# Altium schematic symbol library kmilo17pet-NSC_Switcher.SchLib: 2226 symbols (part 18 of 59)
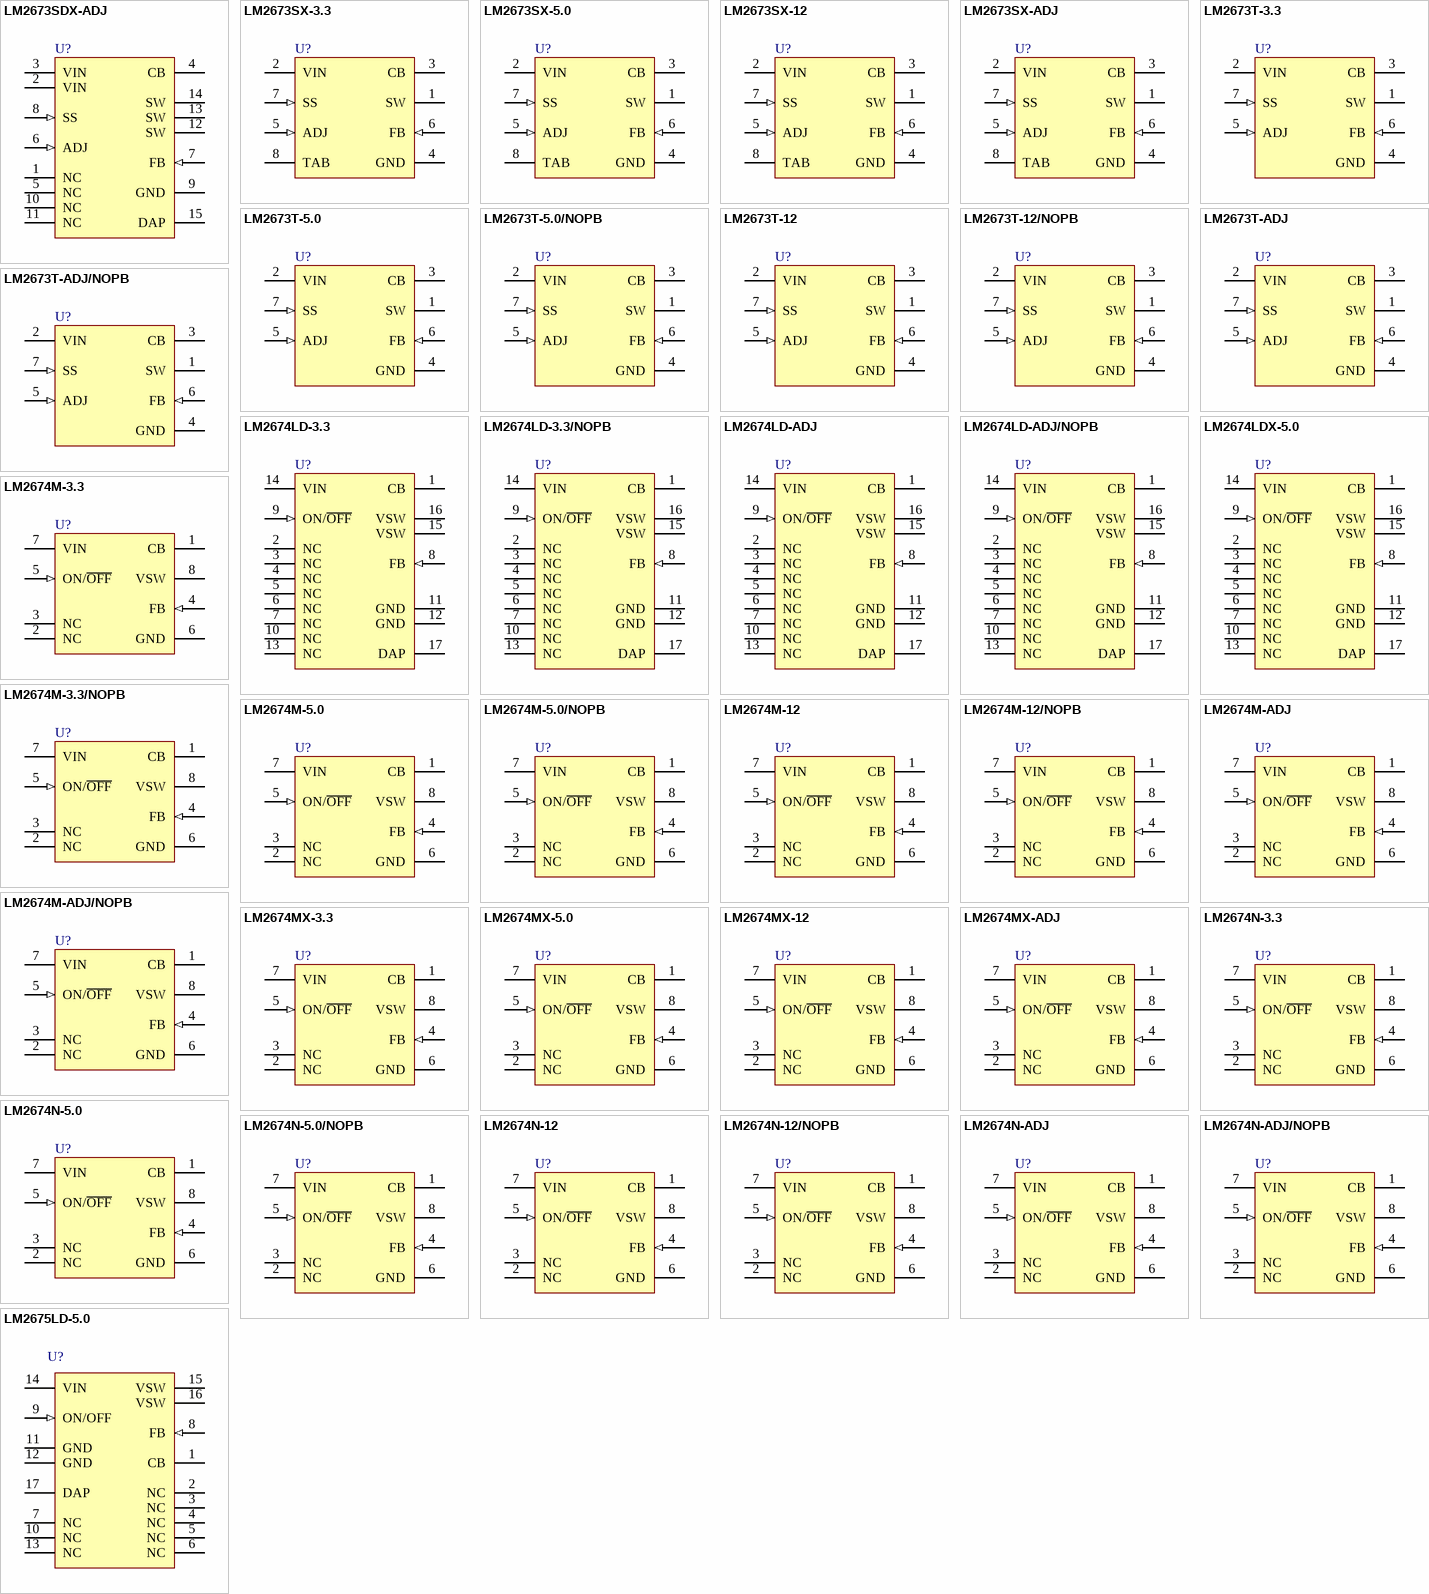
[diagram p86: symbols LM2673SDX-ADJ to LM2675LD-5.0]

## LM2674M-3.3
designator U?
SIMPLE SWITCHER® Power Converter High Efficiency 500mA Step-Down Voltage Regulator, 8-pin Narrow SOIC; PartNumber: LM2674M-3.3; Manufacturer: National Semiconductor; PackageTopMarking: NSZXTT*2674*M3.3; PowerWise: N; High-Reliability: Y; DatasheetVersion: Mar-2005; PackageVersion: revM, May-2009; PackageReference: M08A; PackageDescription: SOIC Narrow, 4.9 x 3.9 x 1.45mm, 8 Lead, 1.27mm Pitch; RoHS: N; PinCount: 8; CompType: Switcher; Code_JEDEC: MS-012-AA; Code_IPC: SOIC127P600-8; ComponentLink1Description: Manufacturer URL; ComponentLink1URL: http://www.national.com/; ComponentLink2Description: LM2674 Datasheet; ComponentLink2URL: http://www.national.com/ds/LM/LM2674.pdf; ComponentLink3Description: LM2674 Web Page; ComponentLink3URL: http://www.national.com/pf/LM/LM2674.html; ComponentLink4Description: M08A Package Page; ComponentLink4URL: http://www.national.com/packaging/folders/m08a.html
footprint M08A_N (SOIC, 8-Leads, Body 4.9x3.9mm, Pitch 1.27mm, IPC Medium Density)
footprint M08A_L (SOIC, 8-Leads, Body 4.9x3.9mm, Pitch 1.27mm, IPC High Density)
footprint M08A_M (SOIC, 8-Leads, Body 4.9x3.9mm, Pitch 1.27mm, IPC Low Density)
pins: 1 CB, 2 NC, 3 NC, 4 FB (in), 5 ON/~{OFF} (in), 6 GND (power), 7 VIN (power), 8 VSW (power)

## LM2674M-3.3/NOPB
designator U?
SIMPLE SWITCHER® Power Converter High Efficiency 500mA Step-Down Voltage Regulator, 8-pin Narrow SOIC, Pb-Free; PartNumber: LM2674M-3.3/NOPB; Manufacturer: National Semiconductor; PackageTopMarking: NSZXTT*2674*M3.3; PowerWise: N; High-Reliability: Y; DatasheetVersion: Mar-2005; PackageVersion: revM, May-2009; PackageReference: M08A; PackageDescription: SOIC Narrow, 4.9 x 3.9 x 1.45mm, 8 Lead, 1.27mm Pitch; RoHS: Y; PinCount: 8; CompType: Switcher; Code_JEDEC: MS-012-AA; Code_IPC: SOIC127P600-8; ComponentLink1Description: Manufacturer URL; ComponentLink1URL: http://www.national.com/; ComponentLink2Description: LM2674 Datasheet; ComponentLink2URL: http://www.national.com/ds/LM/LM2674.pdf; ComponentLink3Description: LM2674 Web Page; ComponentLink3URL: http://www.national.com/pf/LM/LM2674.html; ComponentLink4Description: M08A Package Page; ComponentLink4URL: http://www.national.com/packaging/folders/m08a.html
footprint M08A_N (SOIC, 8-Leads, Body 4.9x3.9mm, Pitch 1.27mm, IPC Medium Density)
footprint M08A_L (SOIC, 8-Leads, Body 4.9x3.9mm, Pitch 1.27mm, IPC High Density)
footprint M08A_M (SOIC, 8-Leads, Body 4.9x3.9mm, Pitch 1.27mm, IPC Low Density)
pins: 1 CB, 2 NC, 3 NC, 4 FB (in), 5 ON/~{OFF} (in), 6 GND (power), 7 VIN (power), 8 VSW (power)

## LM2674M-5.0
designator U?
SIMPLE SWITCHER® Power Converter High Efficiency 500mA Step-Down Voltage Regulator, 8-pin Narrow SOIC; PartNumber: LM2674M-5.0; Manufacturer: National Semiconductor; PackageTopMarking: NSZXTT*2674*M5.0; PowerWise: N; High-Reliability: Y; DatasheetVersion: Mar-2005; PackageVersion: revM, May-2009; PackageReference: M08A; PackageDescription: SOIC Narrow, 4.9 x 3.9 x 1.45mm, 8 Lead, 1.27mm Pitch; RoHS: N; PinCount: 8; CompType: Switcher; Code_JEDEC: MS-012-AA; Code_IPC: SOIC127P600-8; ComponentLink1Description: Manufacturer URL; ComponentLink1URL: http://www.national.com/; ComponentLink2Description: LM2674 Datasheet; ComponentLink2URL: http://www.national.com/ds/LM/LM2674.pdf; ComponentLink3Description: LM2674 Web Page; ComponentLink3URL: http://www.national.com/pf/LM/LM2674.html; ComponentLink4Description: M08A Package Page; ComponentLink4URL: http://www.national.com/packaging/folders/m08a.html
footprint M08A_N (SOIC, 8-Leads, Body 4.9x3.9mm, Pitch 1.27mm, IPC Medium Density)
footprint M08A_L (SOIC, 8-Leads, Body 4.9x3.9mm, Pitch 1.27mm, IPC High Density)
footprint M08A_M (SOIC, 8-Leads, Body 4.9x3.9mm, Pitch 1.27mm, IPC Low Density)
pins: 1 CB, 2 NC, 3 NC, 4 FB (in), 5 ON/~{OFF} (in), 6 GND (power), 7 VIN (power), 8 VSW (power)

## LM2674M-5.0/NOPB
designator U?
SIMPLE SWITCHER® Power Converter High Efficiency 500mA Step-Down Voltage Regulator, 8-pin Narrow SOIC, Pb-Free; PartNumber: LM2674M-5.0/NOPB; Manufacturer: National Semiconductor; PackageTopMarking: NSZXTT*2674*M5.0; PowerWise: N; High-Reliability: Y; DatasheetVersion: Mar-2005; PackageVersion: revM, May-2009; PackageReference: M08A; PackageDescription: SOIC Narrow, 4.9 x 3.9 x 1.45mm, 8 Lead, 1.27mm Pitch; RoHS: Y; PinCount: 8; CompType: Switcher; Code_JEDEC: MS-012-AA; Code_IPC: SOIC127P600-8; ComponentLink1Description: Manufacturer URL; ComponentLink1URL: http://www.national.com/; ComponentLink2Description: LM2674 Datasheet; ComponentLink2URL: http://www.national.com/ds/LM/LM2674.pdf; ComponentLink3Description: LM2674 Web Page; ComponentLink3URL: http://www.national.com/pf/LM/LM2674.html; ComponentLink4Description: M08A Package Page; ComponentLink4URL: http://www.national.com/packaging/folders/m08a.html
footprint M08A_N (SOIC, 8-Leads, Body 4.9x3.9mm, Pitch 1.27mm, IPC Medium Density)
footprint M08A_L (SOIC, 8-Leads, Body 4.9x3.9mm, Pitch 1.27mm, IPC High Density)
footprint M08A_M (SOIC, 8-Leads, Body 4.9x3.9mm, Pitch 1.27mm, IPC Low Density)
pins: 1 CB, 2 NC, 3 NC, 4 FB (in), 5 ON/~{OFF} (in), 6 GND (power), 7 VIN (power), 8 VSW (power)

## LM2674M-12
designator U?
SIMPLE SWITCHER® Power Converter High Efficiency 500mA Step-Down Voltage Regulator, 8-pin Narrow SOIC; PartNumber: LM2674M-12; Manufacturer: National Semiconductor; PackageTopMarking: NSZXTT*2674*M-12; PowerWise: N; High-Reliability: Y; DatasheetVersion: Mar-2005; PackageVersion: revM, May-2009; PackageReference: M08A; PackageDescription: SOIC Narrow, 4.9 x 3.9 x 1.45mm, 8 Lead, 1.27mm Pitch; RoHS: N; PinCount: 8; CompType: Switcher; Code_JEDEC: MS-012-AA; Code_IPC: SOIC127P600-8; ComponentLink1Description: Manufacturer URL; ComponentLink1URL: http://www.national.com/; ComponentLink2Description: LM2674 Datasheet; ComponentLink2URL: http://www.national.com/ds/LM/LM2674.pdf; ComponentLink3Description: LM2674 Web Page; ComponentLink3URL: http://www.national.com/pf/LM/LM2674.html; ComponentLink4Description: M08A Package Page; ComponentLink4URL: http://www.national.com/packaging/folders/m08a.html
footprint M08A_N (SOIC, 8-Leads, Body 4.9x3.9mm, Pitch 1.27mm, IPC Medium Density)
footprint M08A_L (SOIC, 8-Leads, Body 4.9x3.9mm, Pitch 1.27mm, IPC High Density)
footprint M08A_M (SOIC, 8-Leads, Body 4.9x3.9mm, Pitch 1.27mm, IPC Low Density)
pins: 1 CB, 2 NC, 3 NC, 4 FB (in), 5 ON/~{OFF} (in), 6 GND (power), 7 VIN (power), 8 VSW (power)

## LM2674M-12/NOPB
designator U?
SIMPLE SWITCHER® Power Converter High Efficiency 500mA Step-Down Voltage Regulator, 8-pin Narrow SOIC, Pb-Free; PartNumber: LM2674M-12/NOPB; Manufacturer: National Semiconductor; PackageTopMarking: NSZXTT*2674*M-12; PowerWise: N; High-Reliability: Y; DatasheetVersion: Mar-2005; PackageVersion: revM, May-2009; PackageReference: M08A; PackageDescription: SOIC Narrow, 4.9 x 3.9 x 1.45mm, 8 Lead, 1.27mm Pitch; RoHS: Y; PinCount: 8; CompType: Switcher; Code_JEDEC: MS-012-AA; Code_IPC: SOIC127P600-8; ComponentLink1Description: Manufacturer URL; ComponentLink1URL: http://www.national.com/; ComponentLink2Description: LM2674 Datasheet; ComponentLink2URL: http://www.national.com/ds/LM/LM2674.pdf; ComponentLink3Description: LM2674 Web Page; ComponentLink3URL: http://www.national.com/pf/LM/LM2674.html; ComponentLink4Description: M08A Package Page; ComponentLink4URL: http://www.national.com/packaging/folders/m08a.html
footprint M08A_N (SOIC, 8-Leads, Body 4.9x3.9mm, Pitch 1.27mm, IPC Medium Density)
footprint M08A_L (SOIC, 8-Leads, Body 4.9x3.9mm, Pitch 1.27mm, IPC High Density)
footprint M08A_M (SOIC, 8-Leads, Body 4.9x3.9mm, Pitch 1.27mm, IPC Low Density)
pins: 1 CB, 2 NC, 3 NC, 4 FB (in), 5 ON/~{OFF} (in), 6 GND (power), 7 VIN (power), 8 VSW (power)

## LM2674M-ADJ
designator U?
SIMPLE SWITCHER® Power Converter High Efficiency 500mA Step-Down Voltage Regulator, 8-pin Narrow SOIC; PartNumber: LM2674M-ADJ; Manufacturer: National Semiconductor; PackageTopMarking: NSZXTT*2674*MADJ; PowerWise: N; High-Reliability: Y; DatasheetVersion: Mar-2005; PackageVersion: revM, May-2009; PackageReference: M08A; PackageDescription: SOIC Narrow, 4.9 x 3.9 x 1.45mm, 8 Lead, 1.27mm Pitch; RoHS: N; PinCount: 8; CompType: Switcher; Code_JEDEC: MS-012-AA; Code_IPC: SOIC127P600-8; ComponentLink1Description: Manufacturer URL; ComponentLink1URL: http://www.national.com/; ComponentLink2Description: LM2674 Datasheet; ComponentLink2URL: http://www.national.com/ds/LM/LM2674.pdf; ComponentLink3Description: LM2674 Web Page; ComponentLink3URL: http://www.national.com/pf/LM/LM2674.html; ComponentLink4Description: M08A Package Page; ComponentLink4URL: http://www.national.com/packaging/folders/m08a.html
footprint M08A_N (SOIC, 8-Leads, Body 4.9x3.9mm, Pitch 1.27mm, IPC Medium Density)
footprint M08A_L (SOIC, 8-Leads, Body 4.9x3.9mm, Pitch 1.27mm, IPC High Density)
footprint M08A_M (SOIC, 8-Leads, Body 4.9x3.9mm, Pitch 1.27mm, IPC Low Density)
pins: 1 CB, 2 NC, 3 NC, 4 FB (in), 5 ON/~{OFF} (in), 6 GND (power), 7 VIN (power), 8 VSW (power)

## LM2674M-ADJ/NOPB
designator U?
SIMPLE SWITCHER® Power Converter High Efficiency 500mA Step-Down Voltage Regulator, 8-pin Narrow SOIC, Pb-Free; PartNumber: LM2674M-ADJ/NOPB; Manufacturer: National Semiconductor; PackageTopMarking: NSZXTT*2674*MADJ; PowerWise: N; High-Reliability: Y; DatasheetVersion: Mar-2005; PackageVersion: revM, May-2009; PackageReference: M08A; PackageDescription: SOIC Narrow, 4.9 x 3.9 x 1.45mm, 8 Lead, 1.27mm Pitch; RoHS: Y; PinCount: 8; CompType: Switcher; Code_JEDEC: MS-012-AA; Code_IPC: SOIC127P600-8; ComponentLink1Description: Manufacturer URL; ComponentLink1URL: http://www.national.com/; ComponentLink2Description: LM2674 Datasheet; ComponentLink2URL: http://www.national.com/ds/LM/LM2674.pdf; ComponentLink3Description: LM2674 Web Page; ComponentLink3URL: http://www.national.com/pf/LM/LM2674.html; ComponentLink4Description: M08A Package Page; ComponentLink4URL: http://www.national.com/packaging/folders/m08a.html
footprint M08A_N (SOIC, 8-Leads, Body 4.9x3.9mm, Pitch 1.27mm, IPC Medium Density)
footprint M08A_L (SOIC, 8-Leads, Body 4.9x3.9mm, Pitch 1.27mm, IPC High Density)
footprint M08A_M (SOIC, 8-Leads, Body 4.9x3.9mm, Pitch 1.27mm, IPC Low Density)
pins: 1 CB, 2 NC, 3 NC, 4 FB (in), 5 ON/~{OFF} (in), 6 GND (power), 7 VIN (power), 8 VSW (power)

## LM2674MX-3.3
designator U?
SIMPLE SWITCHER® Power Converter High Efficiency 500mA Step-Down Voltage Regulator, 8-pin Narrow SOIC; PartNumber: LM2674MX-3.3; Manufacturer: National Semiconductor; PackageTopMarking: NSZXTT*2674*M3.3; PowerWise: N; High-Reliability: Y; DatasheetVersion: Mar-2005; PackageVersion: revM, May-2009; PackageReference: M08A; PackageDescription: SOIC Narrow, 4.9 x 3.9 x 1.45mm, 8 Lead, 1.27mm Pitch; RoHS: N; PinCount: 8; CompType: Switcher; Code_JEDEC: MS-012-AA; Code_IPC: SOIC127P600-8; ComponentLink1Description: Manufacturer URL; ComponentLink1URL: http://www.national.com/; ComponentLink2Description: LM2674 Datasheet; ComponentLink2URL: http://www.national.com/ds/LM/LM2674.pdf; ComponentLink3Description: LM2674 Web Page; ComponentLink3URL: http://www.national.com/pf/LM/LM2674.html; ComponentLink4Description: M08A Package Page; ComponentLink4URL: http://www.national.com/packaging/folders/m08a.html
footprint M08A_N (SOIC, 8-Leads, Body 4.9x3.9mm, Pitch 1.27mm, IPC Medium Density)
footprint M08A_L (SOIC, 8-Leads, Body 4.9x3.9mm, Pitch 1.27mm, IPC High Density)
footprint M08A_M (SOIC, 8-Leads, Body 4.9x3.9mm, Pitch 1.27mm, IPC Low Density)
pins: 1 CB, 2 NC, 3 NC, 4 FB (in), 5 ON/~{OFF} (in), 6 GND (power), 7 VIN (power), 8 VSW (power)

## LM2674MX-5.0
designator U?
SIMPLE SWITCHER® Power Converter High Efficiency 500mA Step-Down Voltage Regulator, 8-pin Narrow SOIC; PartNumber: LM2674MX-5.0; Manufacturer: National Semiconductor; PackageTopMarking: NSZXTT*2674*M5.0; PowerWise: N; High-Reliability: Y; DatasheetVersion: Mar-2005; PackageVersion: revM, May-2009; PackageReference: M08A; PackageDescription: SOIC Narrow, 4.9 x 3.9 x 1.45mm, 8 Lead, 1.27mm Pitch; RoHS: N; PinCount: 8; CompType: Switcher; Code_JEDEC: MS-012-AA; Code_IPC: SOIC127P600-8; ComponentLink1Description: Manufacturer URL; ComponentLink1URL: http://www.national.com/; ComponentLink2Description: LM2674 Datasheet; ComponentLink2URL: http://www.national.com/ds/LM/LM2674.pdf; ComponentLink3Description: LM2674 Web Page; ComponentLink3URL: http://www.national.com/pf/LM/LM2674.html; ComponentLink4Description: M08A Package Page; ComponentLink4URL: http://www.national.com/packaging/folders/m08a.html
footprint M08A_N (SOIC, 8-Leads, Body 4.9x3.9mm, Pitch 1.27mm, IPC Medium Density)
footprint M08A_L (SOIC, 8-Leads, Body 4.9x3.9mm, Pitch 1.27mm, IPC High Density)
footprint M08A_M (SOIC, 8-Leads, Body 4.9x3.9mm, Pitch 1.27mm, IPC Low Density)
pins: 1 CB, 2 NC, 3 NC, 4 FB (in), 5 ON/~{OFF} (in), 6 GND (power), 7 VIN (power), 8 VSW (power)

## LM2674MX-12
designator U?
SIMPLE SWITCHER® Power Converter High Efficiency 500mA Step-Down Voltage Regulator, 8-pin Narrow SOIC; PartNumber: LM2674MX-12; Manufacturer: National Semiconductor; PackageTopMarking: NSZXTT*2674*M-12; PowerWise: N; High-Reliability: Y; DatasheetVersion: Mar-2005; PackageVersion: revM, May-2009; PackageReference: M08A; PackageDescription: SOIC Narrow, 4.9 x 3.9 x 1.45mm, 8 Lead, 1.27mm Pitch; RoHS: N; PinCount: 8; CompType: Switcher; Code_JEDEC: MS-012-AA; Code_IPC: SOIC127P600-8; ComponentLink1Description: Manufacturer URL; ComponentLink1URL: http://www.national.com/; ComponentLink2Description: LM2674 Datasheet; ComponentLink2URL: http://www.national.com/ds/LM/LM2674.pdf; ComponentLink3Description: LM2674 Web Page; ComponentLink3URL: http://www.national.com/pf/LM/LM2674.html; ComponentLink4Description: M08A Package Page; ComponentLink4URL: http://www.national.com/packaging/folders/m08a.html
footprint M08A_N (SOIC, 8-Leads, Body 4.9x3.9mm, Pitch 1.27mm, IPC Medium Density)
footprint M08A_L (SOIC, 8-Leads, Body 4.9x3.9mm, Pitch 1.27mm, IPC High Density)
footprint M08A_M (SOIC, 8-Leads, Body 4.9x3.9mm, Pitch 1.27mm, IPC Low Density)
pins: 1 CB, 2 NC, 3 NC, 4 FB (in), 5 ON/~{OFF} (in), 6 GND (power), 7 VIN (power), 8 VSW (power)

## LM2674MX-ADJ
designator U?
SIMPLE SWITCHER® Power Converter High Efficiency 500mA Step-Down Voltage Regulator, 8-pin Narrow SOIC; PartNumber: LM2674MX-ADJ; Manufacturer: National Semiconductor; PackageTopMarking: NSZXTT*2674*MADJ; PowerWise: N; High-Reliability: Y; DatasheetVersion: Mar-2005; PackageVersion: revM, May-2009; PackageReference: M08A; PackageDescription: SOIC Narrow, 4.9 x 3.9 x 1.45mm, 8 Lead, 1.27mm Pitch; RoHS: N; PinCount: 8; CompType: Switcher; Code_JEDEC: MS-012-AA; Code_IPC: SOIC127P600-8; ComponentLink1Description: Manufacturer URL; ComponentLink1URL: http://www.national.com/; ComponentLink2Description: LM2674 Datasheet; ComponentLink2URL: http://www.national.com/ds/LM/LM2674.pdf; ComponentLink3Description: LM2674 Web Page; ComponentLink3URL: http://www.national.com/pf/LM/LM2674.html; ComponentLink4Description: M08A Package Page; ComponentLink4URL: http://www.national.com/packaging/folders/m08a.html
footprint M08A_N (SOIC, 8-Leads, Body 4.9x3.9mm, Pitch 1.27mm, IPC Medium Density)
footprint M08A_L (SOIC, 8-Leads, Body 4.9x3.9mm, Pitch 1.27mm, IPC High Density)
footprint M08A_M (SOIC, 8-Leads, Body 4.9x3.9mm, Pitch 1.27mm, IPC Low Density)
pins: 1 CB, 2 NC, 3 NC, 4 FB (in), 5 ON/~{OFF} (in), 6 GND (power), 7 VIN (power), 8 VSW (power)

## LM2674N-3.3
designator U?
SIMPLE SWITCHER® Power Converter High Efficiency 500mA Step-Down Voltage Regulator, 8-pin MDIP; PartNumber: LM2674N-3.3; Manufacturer: National Semiconductor; PackageTopMarking: NSUZXYTTE#*LM2674*N-3.3; PowerWise: N; High-Reliability: Y; DatasheetVersion: Mar-2005; PackageVersion: revG, May-2006; PackageReference: N08E; PackageDescription: MDIP, .365 x .250 x .130in, 8 Lead, .100in Pitch; RoHS: N; PinCount: 8; CompType: Switcher; Code_JEDEC: MS-001-BA; ComponentLink1Description: Manufacturer URL; ComponentLink1URL: http://www.national.com/; ComponentLink2Description: LM2674 Datasheet; ComponentLink2URL: http://www.national.com/ds/LM/LM2674.pdf; ComponentLink3Description: LM2674 Web Page; ComponentLink3URL: http://www.national.com/pf/LM/LM2674.html; ComponentLink4Description: N08E Package Page; ComponentLink4URL: http://www.national.com/packaging/folders/n08e.html
footprint N08E (DIP, 8-Leads, Row Spacing 7.62mm, Pitch 2.54mm, Body 9.91x6.35mm)
pins: 1 CB, 2 NC, 3 NC, 4 FB (in), 5 ON/~{OFF} (in), 6 GND (power), 7 VIN (power), 8 VSW (power)

## LM2674N-5.0
designator U?
SIMPLE SWITCHER® Power Converter High Efficiency 500mA Step-Down Voltage Regulator, 8-pin MDIP; PartNumber: LM2674N-5.0; Manufacturer: National Semiconductor; PackageTopMarking: NSUZXYTTE#*LM2674*N-5.0; PowerWise: N; High-Reliability: Y; DatasheetVersion: Mar-2005; PackageVersion: revG, May-2006; PackageReference: N08E; PackageDescription: MDIP, .365 x .250 x .130in, 8 Lead, .100in Pitch; RoHS: N; PinCount: 8; CompType: Switcher; Code_JEDEC: MS-001-BA; ComponentLink1Description: Manufacturer URL; ComponentLink1URL: http://www.national.com/; ComponentLink2Description: LM2674 Datasheet; ComponentLink2URL: http://www.national.com/ds/LM/LM2674.pdf; ComponentLink3Description: LM2674 Web Page; ComponentLink3URL: http://www.national.com/pf/LM/LM2674.html; ComponentLink4Description: N08E Package Page; ComponentLink4URL: http://www.national.com/packaging/folders/n08e.html
footprint N08E (DIP, 8-Leads, Row Spacing 7.62mm, Pitch 2.54mm, Body 9.91x6.35mm)
pins: 1 CB, 2 NC, 3 NC, 4 FB (in), 5 ON/~{OFF} (in), 6 GND (power), 7 VIN (power), 8 VSW (power)

## LM2674N-5.0/NOPB
designator U?
SIMPLE SWITCHER® Power Converter High Efficiency 500mA Step-Down Voltage Regulator, 8-pin MDIP, Pb-Free; PartNumber: LM2674N-5.0/NOPB; Manufacturer: National Semiconductor; PackageTopMarking: NSUZXYTTE#*LM2674*N-5.0; PowerWise: N; High-Reliability: Y; DatasheetVersion: Mar-2005; PackageVersion: revG, May-2006; PackageReference: N08E; PackageDescription: MDIP, .365 x .250 x .130in, 8 Lead, .100in Pitch; RoHS: Y; PinCount: 8; CompType: Switcher; Code_JEDEC: MS-001-BA; ComponentLink1Description: Manufacturer URL; ComponentLink1URL: http://www.national.com/; ComponentLink2Description: LM2674 Datasheet; ComponentLink2URL: http://www.national.com/ds/LM/LM2674.pdf; ComponentLink3Description: LM2674 Web Page; ComponentLink3URL: http://www.national.com/pf/LM/LM2674.html; ComponentLink4Description: N08E Package Page; ComponentLink4URL: http://www.national.com/packaging/folders/n08e.html
footprint N08E (DIP, 8-Leads, Row Spacing 7.62mm, Pitch 2.54mm, Body 9.91x6.35mm)
pins: 1 CB, 2 NC, 3 NC, 4 FB (in), 5 ON/~{OFF} (in), 6 GND (power), 7 VIN (power), 8 VSW (power)

## LM2674N-12
designator U?
SIMPLE SWITCHER® Power Converter High Efficiency 500mA Step-Down Voltage Regulator, 8-pin MDIP; PartNumber: LM2674N-12; Manufacturer: National Semiconductor; PackageTopMarking: NSUZXYTTE#*LM2674*N-12; PowerWise: N; High-Reliability: Y; DatasheetVersion: Mar-2005; PackageVersion: revG, May-2006; PackageReference: N08E; PackageDescription: MDIP, .365 x .250 x .130in, 8 Lead, .100in Pitch; RoHS: N; PinCount: 8; CompType: Switcher; Code_JEDEC: MS-001-BA; ComponentLink1Description: Manufacturer URL; ComponentLink1URL: http://www.national.com/; ComponentLink2Description: LM2674 Datasheet; ComponentLink2URL: http://www.national.com/ds/LM/LM2674.pdf; ComponentLink3Description: LM2674 Web Page; ComponentLink3URL: http://www.national.com/pf/LM/LM2674.html; ComponentLink4Description: N08E Package Page; ComponentLink4URL: http://www.national.com/packaging/folders/n08e.html
footprint N08E (DIP, 8-Leads, Row Spacing 7.62mm, Pitch 2.54mm, Body 9.91x6.35mm)
pins: 1 CB, 2 NC, 3 NC, 4 FB (in), 5 ON/~{OFF} (in), 6 GND (power), 7 VIN (power), 8 VSW (power)

## LM2674N-12/NOPB
designator U?
SIMPLE SWITCHER® Power Converter High Efficiency 500mA Step-Down Voltage Regulator, 8-pin MDIP, Pb-Free; PartNumber: LM2674N-12/NOPB; Manufacturer: National Semiconductor; PackageTopMarking: NSUZXYTTE#*LM2674*N-12; PowerWise: N; High-Reliability: Y; DatasheetVersion: Mar-2005; PackageVersion: revG, May-2006; PackageReference: N08E; PackageDescription: MDIP, .365 x .250 x .130in, 8 Lead, .100in Pitch; RoHS: Y; PinCount: 8; CompType: Switcher; Code_JEDEC: MS-001-BA; ComponentLink1Description: Manufacturer URL; ComponentLink1URL: http://www.national.com/; ComponentLink2Description: LM2674 Datasheet; ComponentLink2URL: http://www.national.com/ds/LM/LM2674.pdf; ComponentLink3Description: LM2674 Web Page; ComponentLink3URL: http://www.national.com/pf/LM/LM2674.html; ComponentLink4Description: N08E Package Page; ComponentLink4URL: http://www.national.com/packaging/folders/n08e.html
footprint N08E (DIP, 8-Leads, Row Spacing 7.62mm, Pitch 2.54mm, Body 9.91x6.35mm)
pins: 1 CB, 2 NC, 3 NC, 4 FB (in), 5 ON/~{OFF} (in), 6 GND (power), 7 VIN (power), 8 VSW (power)

## LM2674N-ADJ
designator U?
SIMPLE SWITCHER® Power Converter High Efficiency 500mA Step-Down Voltage Regulator, 8-pin MDIP; PartNumber: LM2674N-ADJ; Manufacturer: National Semiconductor; PackageTopMarking: NSUZXYTTE#*LM2674*N-ADJ; PowerWise: N; High-Reliability: Y; DatasheetVersion: Mar-2005; PackageVersion: revG, May-2006; PackageReference: N08E; PackageDescription: MDIP, .365 x .250 x .130in, 8 Lead, .100in Pitch; RoHS: N; PinCount: 8; CompType: Switcher; Code_JEDEC: MS-001-BA; ComponentLink1Description: Manufacturer URL; ComponentLink1URL: http://www.national.com/; ComponentLink2Description: LM2674 Datasheet; ComponentLink2URL: http://www.national.com/ds/LM/LM2674.pdf; ComponentLink3Description: LM2674 Web Page; ComponentLink3URL: http://www.national.com/pf/LM/LM2674.html; ComponentLink4Description: N08E Package Page; ComponentLink4URL: http://www.national.com/packaging/folders/n08e.html
footprint N08E (DIP, 8-Leads, Row Spacing 7.62mm, Pitch 2.54mm, Body 9.91x6.35mm)
pins: 1 CB, 2 NC, 3 NC, 4 FB (in), 5 ON/~{OFF} (in), 6 GND (power), 7 VIN (power), 8 VSW (power)

## LM2674N-ADJ/NOPB
designator U?
SIMPLE SWITCHER® Power Converter High Efficiency 500mA Step-Down Voltage Regulator, 8-pin MDIP, Pb-Free; PartNumber: LM2674N-ADJ/NOPB; Manufacturer: National Semiconductor; PackageTopMarking: NSUZXYTTE#*LM2674*N-ADJ; PowerWise: N; High-Reliability: Y; DatasheetVersion: Mar-2005; PackageVersion: revG, May-2006; PackageReference: N08E; PackageDescription: MDIP, .365 x .250 x .130in, 8 Lead, .100in Pitch; RoHS: Y; PinCount: 8; CompType: Switcher; Code_JEDEC: MS-001-BA; ComponentLink1Description: Manufacturer URL; ComponentLink1URL: http://www.national.com/; ComponentLink2Description: LM2674 Datasheet; ComponentLink2URL: http://www.national.com/ds/LM/LM2674.pdf; ComponentLink3Description: LM2674 Web Page; ComponentLink3URL: http://www.national.com/pf/LM/LM2674.html; ComponentLink4Description: N08E Package Page; ComponentLink4URL: http://www.national.com/packaging/folders/n08e.html
footprint N08E (DIP, 8-Leads, Row Spacing 7.62mm, Pitch 2.54mm, Body 9.91x6.35mm)
pins: 1 CB, 2 NC, 3 NC, 4 FB (in), 5 ON/~{OFF} (in), 6 GND (power), 7 VIN (power), 8 VSW (power)

## LM2675LD-5.0
designator U?
SIMPLE SWITCHER® Power Converter High Efficiency 1A Step-Down Voltage Regulator, 16-pin LLP; PartNumber: LM2675LD-5.0; Manufacturer: National Semiconductor; PackageTopMarking: NS*UZXYTT*S000FB; PowerWise: N; High-Reliability: Y; DatasheetVersion: Jun-2005; PackageVersion: revA, Nov-2000; PackageReference: LDA16A; PackageDescription: LLP, Plastic, Dual, 5 x 5 x 0.75mm Body, 16 Lead, 0.5mm Pitch; RoHS: N; PinCount: 16; CompType: Switcher; ComponentLink1Description: Manufacturer URL; ComponentLink1URL: http://www.national.com/; ComponentLink2Description: LM2675 Datasheet; ComponentLink2URL: http://www.national.com/ds/LM/LM2675.pdf; ComponentLink3Description: LM2675 Web Page; ComponentLink3URL: http://www.national.com/pf/LM/LM2675.html; ComponentLink4Description: LDA16A Package Page; ComponentLink4URL: http://www.national.com/packaging/folders/lda16a.html
footprint LDA16A (PSON, 16-Leads, Body 5x5 mm, Pitch 0.5mm, NSC Recommended)
pins: 1 CB, 2 NC, 3 NC, 4 NC, 5 NC, 6 NC, 7 NC, 8 FB (in), 9 ON/OFF (in), 10 NC, 11 GND (power), 12 GND (power), 13 NC, 14 VIN (power), 15 VSW (power), 16 VSW (power), 17 DAP

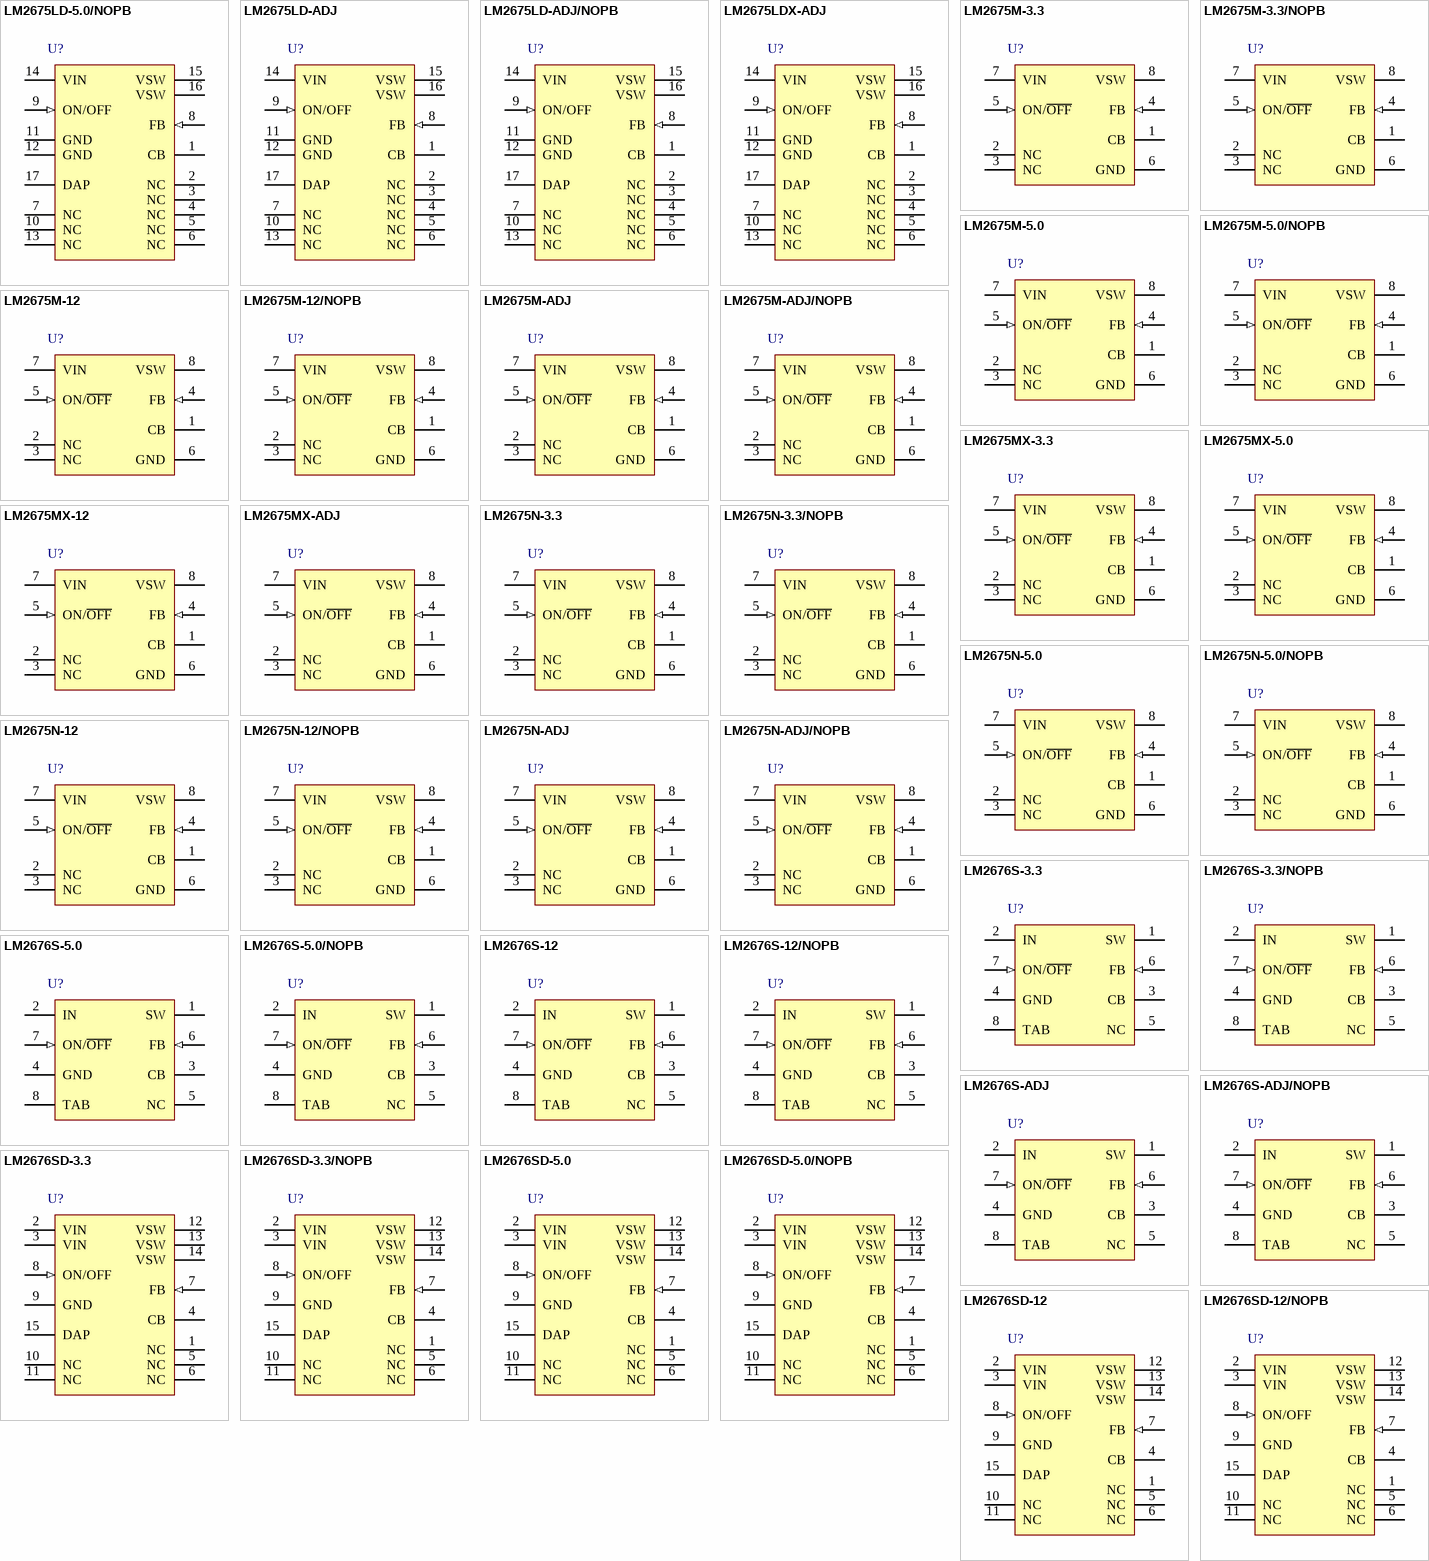
[diagram p19: symbols LM2675LD-5.0/NOPB to LM2676SD-12/NOPB]

## LM2675LD-5.0/NOPB
designator U?
SIMPLE SWITCHER® Power Converter High Efficiency 1A Step-Down Voltage Regulator, 16-pin LLP, Pb-Free; PartNumber: LM2675LD-5.0/NOPB; Manufacturer: National Semiconductor; PackageTopMarking: NS*UZXYTT*S000FB; PowerWise: N; High-Reliability: Y; DatasheetVersion: Jun-2005; PackageVersion: revA, Nov-2000; PackageReference: LDA16A; PackageDescription: LLP, Plastic, Dual, 5 x 5 x 0.75mm Body, 16 Lead, 0.5mm Pitch; RoHS: Y; PinCount: 16; CompType: Switcher; ComponentLink1Description: Manufacturer URL; ComponentLink1URL: http://www.national.com/; ComponentLink2Description: LM2675 Datasheet; ComponentLink2URL: http://www.national.com/ds/LM/LM2675.pdf; ComponentLink3Description: LM2675 Web Page; ComponentLink3URL: http://www.national.com/pf/LM/LM2675.html; ComponentLink4Description: LDA16A Package Page; ComponentLink4URL: http://www.national.com/packaging/folders/lda16a.html
footprint LDA16A (PSON, 16-Leads, Body 5x5 mm, Pitch 0.5mm, NSC Recommended)
pins: 1 CB, 2 NC, 3 NC, 4 NC, 5 NC, 6 NC, 7 NC, 8 FB (in), 9 ON/OFF (in), 10 NC, 11 GND (power), 12 GND (power), 13 NC, 14 VIN (power), 15 VSW (power), 16 VSW (power), 17 DAP

## LM2675LD-ADJ
designator U?
SIMPLE SWITCHER® Power Converter High Efficiency 1A Step-Down Voltage Regulator, 16-pin LLP; PartNumber: LM2675LD-ADJ; Manufacturer: National Semiconductor; PackageTopMarking: NS*UZXYTT*S000GB; PowerWise: N; High-Reliability: Y; DatasheetVersion: Jun-2005; PackageVersion: revA, Nov-2000; PackageReference: LDA16A; PackageDescription: LLP, Plastic, Dual, 5 x 5 x 0.75mm Body, 16 Lead, 0.5mm Pitch; RoHS: N; PinCount: 16; CompType: Switcher; ComponentLink1Description: Manufacturer URL; ComponentLink1URL: http://www.national.com/; ComponentLink2Description: LM2675 Datasheet; ComponentLink2URL: http://www.national.com/ds/LM/LM2675.pdf; ComponentLink3Description: LM2675 Web Page; ComponentLink3URL: http://www.national.com/pf/LM/LM2675.html; ComponentLink4Description: LDA16A Package Page; ComponentLink4URL: http://www.national.com/packaging/folders/lda16a.html
footprint LDA16A (PSON, 16-Leads, Body 5x5 mm, Pitch 0.5mm, NSC Recommended)
pins: 1 CB, 2 NC, 3 NC, 4 NC, 5 NC, 6 NC, 7 NC, 8 FB (in), 9 ON/OFF (in), 10 NC, 11 GND (power), 12 GND (power), 13 NC, 14 VIN (power), 15 VSW (power), 16 VSW (power), 17 DAP

## LM2675LD-ADJ/NOPB
designator U?
SIMPLE SWITCHER® Power Converter High Efficiency 1A Step-Down Voltage Regulator, 16-pin LLP, Pb-Free; PartNumber: LM2675LD-ADJ/NOPB; Manufacturer: National Semiconductor; PackageTopMarking: NS*UZXYTT*S000GB; PowerWise: N; High-Reliability: Y; DatasheetVersion: Jun-2005; PackageVersion: revA, Nov-2000; PackageReference: LDA16A; PackageDescription: LLP, Plastic, Dual, 5 x 5 x 0.75mm Body, 16 Lead, 0.5mm Pitch; RoHS: Y; PinCount: 16; CompType: Switcher; ComponentLink1Description: Manufacturer URL; ComponentLink1URL: http://www.national.com/; ComponentLink2Description: LM2675 Datasheet; ComponentLink2URL: http://www.national.com/ds/LM/LM2675.pdf; ComponentLink3Description: LM2675 Web Page; ComponentLink3URL: http://www.national.com/pf/LM/LM2675.html; ComponentLink4Description: LDA16A Package Page; ComponentLink4URL: http://www.national.com/packaging/folders/lda16a.html
footprint LDA16A (PSON, 16-Leads, Body 5x5 mm, Pitch 0.5mm, NSC Recommended)
pins: 1 CB, 2 NC, 3 NC, 4 NC, 5 NC, 6 NC, 7 NC, 8 FB (in), 9 ON/OFF (in), 10 NC, 11 GND (power), 12 GND (power), 13 NC, 14 VIN (power), 15 VSW (power), 16 VSW (power), 17 DAP

## LM2675LDX-ADJ
designator U?
SIMPLE SWITCHER® Power Converter High Efficiency 1A Step-Down Voltage Regulator, 16-pin LLP; PartNumber: LM2675LDX-ADJ; Manufacturer: National Semiconductor; PackageTopMarking: NS*UZXYTT*S000GB; PowerWise: N; High-Reliability: Y; DatasheetVersion: Jun-2005; PackageVersion: revA, Nov-2000; PackageReference: LDA16A; PackageDescription: LLP, Plastic, Dual, 5 x 5 x 0.75mm Body, 16 Lead, 0.5mm Pitch; RoHS: N; PinCount: 16; CompType: Switcher; ComponentLink1Description: Manufacturer URL; ComponentLink1URL: http://www.national.com/; ComponentLink2Description: LM2675 Datasheet; ComponentLink2URL: http://www.national.com/ds/LM/LM2675.pdf; ComponentLink3Description: LM2675 Web Page; ComponentLink3URL: http://www.national.com/pf/LM/LM2675.html; ComponentLink4Description: LDA16A Package Page; ComponentLink4URL: http://www.national.com/packaging/folders/lda16a.html
footprint LDA16A (PSON, 16-Leads, Body 5x5 mm, Pitch 0.5mm, NSC Recommended)
pins: 1 CB, 2 NC, 3 NC, 4 NC, 5 NC, 6 NC, 7 NC, 8 FB (in), 9 ON/OFF (in), 10 NC, 11 GND (power), 12 GND (power), 13 NC, 14 VIN (power), 15 VSW (power), 16 VSW (power), 17 DAP

## LM2675M-3.3
designator U?
SIMPLE SWITCHER® Power Converter High Efficiency 1A Step-Down Voltage Regulator, 8-pin Narrow SOIC; PartNumber: LM2675M-3.3; Manufacturer: National Semiconductor; PackageTopMarking: NSZXTT*2675*M3.3; PowerWise: N; High-Reliability: Y; DatasheetVersion: Jun-2005; PackageVersion: revM, May-2009; PackageReference: M08A; PackageDescription: SOIC Narrow, 4.9 x 3.9 x 1.45mm, 8 Lead, 1.27mm Pitch; RoHS: N; PinCount: 8; CompType: Switcher; Code_JEDEC: MS-012-AA; Code_IPC: SOIC127P600-8; ComponentLink1Description: Manufacturer URL; ComponentLink1URL: http://www.national.com/; ComponentLink2Description: LM2675 Datasheet; ComponentLink2URL: http://www.national.com/ds/LM/LM2675.pdf; ComponentLink3Description: LM2675 Web Page; ComponentLink3URL: http://www.national.com/pf/LM/LM2675.html; ComponentLink4Description: M08A Package Page; ComponentLink4URL: http://www.national.com/packaging/folders/m08a.html
footprint M08A_N (SOIC, 8-Leads, Body 4.9x3.9mm, Pitch 1.27mm, IPC Medium Density)
footprint M08A_L (SOIC, 8-Leads, Body 4.9x3.9mm, Pitch 1.27mm, IPC High Density)
footprint M08A_M (SOIC, 8-Leads, Body 4.9x3.9mm, Pitch 1.27mm, IPC Low Density)
pins: 1 CB, 2 NC, 3 NC, 4 FB (in), 5 ON/~{OFF} (in), 6 GND (power), 7 VIN (power), 8 VSW (power)

## LM2675M-3.3/NOPB
designator U?
SIMPLE SWITCHER® Power Converter High Efficiency 1A Step-Down Voltage Regulator, 8-pin Narrow SOIC, Pb-Free; PartNumber: LM2675M-3.3/NOPB; Manufacturer: National Semiconductor; PackageTopMarking: NSZXTT*2675*M3.3; PowerWise: N; High-Reliability: Y; DatasheetVersion: Jun-2005; PackageVersion: revM, May-2009; PackageReference: M08A; PackageDescription: SOIC Narrow, 4.9 x 3.9 x 1.45mm, 8 Lead, 1.27mm Pitch; RoHS: Y; PinCount: 8; CompType: Switcher; Code_JEDEC: MS-012-AA; Code_IPC: SOIC127P600-8; ComponentLink1Description: Manufacturer URL; ComponentLink1URL: http://www.national.com/; ComponentLink2Description: LM2675 Datasheet; ComponentLink2URL: http://www.national.com/ds/LM/LM2675.pdf; ComponentLink3Description: LM2675 Web Page; ComponentLink3URL: http://www.national.com/pf/LM/LM2675.html; ComponentLink4Description: M08A Package Page; ComponentLink4URL: http://www.national.com/packaging/folders/m08a.html
footprint M08A_N (SOIC, 8-Leads, Body 4.9x3.9mm, Pitch 1.27mm, IPC Medium Density)
footprint M08A_L (SOIC, 8-Leads, Body 4.9x3.9mm, Pitch 1.27mm, IPC High Density)
footprint M08A_M (SOIC, 8-Leads, Body 4.9x3.9mm, Pitch 1.27mm, IPC Low Density)
pins: 1 CB, 2 NC, 3 NC, 4 FB (in), 5 ON/~{OFF} (in), 6 GND (power), 7 VIN (power), 8 VSW (power)

## LM2675M-5.0
designator U?
SIMPLE SWITCHER® Power Converter High Efficiency 1A Step-Down Voltage Regulator, 8-pin Narrow SOIC; PartNumber: LM2675M-5.0; Manufacturer: National Semiconductor; PackageTopMarking: NSZXTT*2675*M5.0; PowerWise: N; High-Reliability: Y; DatasheetVersion: Jun-2005; PackageVersion: revM, May-2009; PackageReference: M08A; PackageDescription: SOIC Narrow, 4.9 x 3.9 x 1.45mm, 8 Lead, 1.27mm Pitch; RoHS: N; PinCount: 8; CompType: Switcher; Code_JEDEC: MS-012-AA; Code_IPC: SOIC127P600-8; ComponentLink1Description: Manufacturer URL; ComponentLink1URL: http://www.national.com/; ComponentLink2Description: LM2675 Datasheet; ComponentLink2URL: http://www.national.com/ds/LM/LM2675.pdf; ComponentLink3Description: LM2675 Web Page; ComponentLink3URL: http://www.national.com/pf/LM/LM2675.html; ComponentLink4Description: M08A Package Page; ComponentLink4URL: http://www.national.com/packaging/folders/m08a.html
footprint M08A_N (SOIC, 8-Leads, Body 4.9x3.9mm, Pitch 1.27mm, IPC Medium Density)
footprint M08A_L (SOIC, 8-Leads, Body 4.9x3.9mm, Pitch 1.27mm, IPC High Density)
footprint M08A_M (SOIC, 8-Leads, Body 4.9x3.9mm, Pitch 1.27mm, IPC Low Density)
pins: 1 CB, 2 NC, 3 NC, 4 FB (in), 5 ON/~{OFF} (in), 6 GND (power), 7 VIN (power), 8 VSW (power)

## LM2675M-5.0/NOPB
designator U?
SIMPLE SWITCHER® Power Converter High Efficiency 1A Step-Down Voltage Regulator, 8-pin Narrow SOIC, Pb-Free; PartNumber: LM2675M-5.0/NOPB; Manufacturer: National Semiconductor; PackageTopMarking: NSZXTT*2675*M5.0; PowerWise: N; High-Reliability: Y; DatasheetVersion: Jun-2005; PackageVersion: revM, May-2009; PackageReference: M08A; PackageDescription: SOIC Narrow, 4.9 x 3.9 x 1.45mm, 8 Lead, 1.27mm Pitch; RoHS: Y; PinCount: 8; CompType: Switcher; Code_JEDEC: MS-012-AA; Code_IPC: SOIC127P600-8; ComponentLink1Description: Manufacturer URL; ComponentLink1URL: http://www.national.com/; ComponentLink2Description: LM2675 Datasheet; ComponentLink2URL: http://www.national.com/ds/LM/LM2675.pdf; ComponentLink3Description: LM2675 Web Page; ComponentLink3URL: http://www.national.com/pf/LM/LM2675.html; ComponentLink4Description: M08A Package Page; ComponentLink4URL: http://www.national.com/packaging/folders/m08a.html
footprint M08A_N (SOIC, 8-Leads, Body 4.9x3.9mm, Pitch 1.27mm, IPC Medium Density)
footprint M08A_L (SOIC, 8-Leads, Body 4.9x3.9mm, Pitch 1.27mm, IPC High Density)
footprint M08A_M (SOIC, 8-Leads, Body 4.9x3.9mm, Pitch 1.27mm, IPC Low Density)
pins: 1 CB, 2 NC, 3 NC, 4 FB (in), 5 ON/~{OFF} (in), 6 GND (power), 7 VIN (power), 8 VSW (power)

## LM2675M-12
designator U?
SIMPLE SWITCHER® Power Converter High Efficiency 1A Step-Down Voltage Regulator, 8-pin Narrow SOIC; PartNumber: LM2675M-12; Manufacturer: National Semiconductor; PackageTopMarking: NSZXTT*2675*M-12; PowerWise: N; High-Reliability: Y; DatasheetVersion: Jun-2005; PackageVersion: revM, May-2009; PackageReference: M08A; PackageDescription: SOIC Narrow, 4.9 x 3.9 x 1.45mm, 8 Lead, 1.27mm Pitch; RoHS: N; PinCount: 8; CompType: Switcher; Code_JEDEC: MS-012-AA; Code_IPC: SOIC127P600-8; ComponentLink1Description: Manufacturer URL; ComponentLink1URL: http://www.national.com/; ComponentLink2Description: LM2675 Datasheet; ComponentLink2URL: http://www.national.com/ds/LM/LM2675.pdf; ComponentLink3Description: LM2675 Web Page; ComponentLink3URL: http://www.national.com/pf/LM/LM2675.html; ComponentLink4Description: M08A Package Page; ComponentLink4URL: http://www.national.com/packaging/folders/m08a.html
footprint M08A_N (SOIC, 8-Leads, Body 4.9x3.9mm, Pitch 1.27mm, IPC Medium Density)
footprint M08A_L (SOIC, 8-Leads, Body 4.9x3.9mm, Pitch 1.27mm, IPC High Density)
footprint M08A_M (SOIC, 8-Leads, Body 4.9x3.9mm, Pitch 1.27mm, IPC Low Density)
pins: 1 CB, 2 NC, 3 NC, 4 FB (in), 5 ON/~{OFF} (in), 6 GND (power), 7 VIN (power), 8 VSW (power)

## LM2675M-12/NOPB
designator U?
SIMPLE SWITCHER® Power Converter High Efficiency 1A Step-Down Voltage Regulator, 8-pin Narrow SOIC, Pb-Free; PartNumber: LM2675M-12/NOPB; Manufacturer: National Semiconductor; PackageTopMarking: NSZXTT*2675*M-12; PowerWise: N; High-Reliability: Y; DatasheetVersion: Jun-2005; PackageVersion: revM, May-2009; PackageReference: M08A; PackageDescription: SOIC Narrow, 4.9 x 3.9 x 1.45mm, 8 Lead, 1.27mm Pitch; RoHS: Y; PinCount: 8; CompType: Switcher; Code_JEDEC: MS-012-AA; Code_IPC: SOIC127P600-8; ComponentLink1Description: Manufacturer URL; ComponentLink1URL: http://www.national.com/; ComponentLink2Description: LM2675 Datasheet; ComponentLink2URL: http://www.national.com/ds/LM/LM2675.pdf; ComponentLink3Description: LM2675 Web Page; ComponentLink3URL: http://www.national.com/pf/LM/LM2675.html; ComponentLink4Description: M08A Package Page; ComponentLink4URL: http://www.national.com/packaging/folders/m08a.html
footprint M08A_N (SOIC, 8-Leads, Body 4.9x3.9mm, Pitch 1.27mm, IPC Medium Density)
footprint M08A_L (SOIC, 8-Leads, Body 4.9x3.9mm, Pitch 1.27mm, IPC High Density)
footprint M08A_M (SOIC, 8-Leads, Body 4.9x3.9mm, Pitch 1.27mm, IPC Low Density)
pins: 1 CB, 2 NC, 3 NC, 4 FB (in), 5 ON/~{OFF} (in), 6 GND (power), 7 VIN (power), 8 VSW (power)

## LM2675M-ADJ
designator U?
SIMPLE SWITCHER® Power Converter High Efficiency 1A Step-Down Voltage Regulator, 8-pin Narrow SOIC; PartNumber: LM2675M-ADJ; Manufacturer: National Semiconductor; PackageTopMarking: NSZXTT*2675*MADJ; PowerWise: N; High-Reliability: Y; DatasheetVersion: Jun-2005; PackageVersion: revM, May-2009; PackageReference: M08A; PackageDescription: SOIC Narrow, 4.9 x 3.9 x 1.45mm, 8 Lead, 1.27mm Pitch; RoHS: N; PinCount: 8; CompType: Switcher; Code_JEDEC: MS-012-AA; Code_IPC: SOIC127P600-8; ComponentLink1Description: Manufacturer URL; ComponentLink1URL: http://www.national.com/; ComponentLink2Description: LM2675 Datasheet; ComponentLink2URL: http://www.national.com/ds/LM/LM2675.pdf; ComponentLink3Description: LM2675 Web Page; ComponentLink3URL: http://www.national.com/pf/LM/LM2675.html; ComponentLink4Description: M08A Package Page; ComponentLink4URL: http://www.national.com/packaging/folders/m08a.html
footprint M08A_N (SOIC, 8-Leads, Body 4.9x3.9mm, Pitch 1.27mm, IPC Medium Density)
footprint M08A_L (SOIC, 8-Leads, Body 4.9x3.9mm, Pitch 1.27mm, IPC High Density)
footprint M08A_M (SOIC, 8-Leads, Body 4.9x3.9mm, Pitch 1.27mm, IPC Low Density)
pins: 1 CB, 2 NC, 3 NC, 4 FB (in), 5 ON/~{OFF} (in), 6 GND (power), 7 VIN (power), 8 VSW (power)

## LM2675M-ADJ/NOPB
designator U?
SIMPLE SWITCHER® Power Converter High Efficiency 1A Step-Down Voltage Regulator, 8-pin Narrow SOIC, Pb-Free; PartNumber: LM2675M-ADJ/NOPB; Manufacturer: National Semiconductor; PackageTopMarking: NSZXTT*2675*MADJ; PowerWise: N; High-Reliability: Y; DatasheetVersion: Jun-2005; PackageVersion: revM, May-2009; PackageReference: M08A; PackageDescription: SOIC Narrow, 4.9 x 3.9 x 1.45mm, 8 Lead, 1.27mm Pitch; RoHS: Y; PinCount: 8; CompType: Switcher; Code_JEDEC: MS-012-AA; Code_IPC: SOIC127P600-8; ComponentLink1Description: Manufacturer URL; ComponentLink1URL: http://www.national.com/; ComponentLink2Description: LM2675 Datasheet; ComponentLink2URL: http://www.national.com/ds/LM/LM2675.pdf; ComponentLink3Description: LM2675 Web Page; ComponentLink3URL: http://www.national.com/pf/LM/LM2675.html; ComponentLink4Description: M08A Package Page; ComponentLink4URL: http://www.national.com/packaging/folders/m08a.html
footprint M08A_N (SOIC, 8-Leads, Body 4.9x3.9mm, Pitch 1.27mm, IPC Medium Density)
footprint M08A_L (SOIC, 8-Leads, Body 4.9x3.9mm, Pitch 1.27mm, IPC High Density)
footprint M08A_M (SOIC, 8-Leads, Body 4.9x3.9mm, Pitch 1.27mm, IPC Low Density)
pins: 1 CB, 2 NC, 3 NC, 4 FB (in), 5 ON/~{OFF} (in), 6 GND (power), 7 VIN (power), 8 VSW (power)

## LM2675MX-3.3
designator U?
SIMPLE SWITCHER® Power Converter High Efficiency 1A Step-Down Voltage Regulator, 8-pin Narrow SOIC; PartNumber: LM2675MX-3.3; Manufacturer: National Semiconductor; PackageTopMarking: NSZXTT*2675*M3.3; PowerWise: N; High-Reliability: Y; DatasheetVersion: Jun-2005; PackageVersion: revM, May-2009; PackageReference: M08A; PackageDescription: SOIC Narrow, 4.9 x 3.9 x 1.45mm, 8 Lead, 1.27mm Pitch; RoHS: N; PinCount: 8; CompType: Switcher; Code_JEDEC: MS-012-AA; Code_IPC: SOIC127P600-8; ComponentLink1Description: Manufacturer URL; ComponentLink1URL: http://www.national.com/; ComponentLink2Description: LM2675 Datasheet; ComponentLink2URL: http://www.national.com/ds/LM/LM2675.pdf; ComponentLink3Description: LM2675 Web Page; ComponentLink3URL: http://www.national.com/pf/LM/LM2675.html; ComponentLink4Description: M08A Package Page; ComponentLink4URL: http://www.national.com/packaging/folders/m08a.html
footprint M08A_N (SOIC, 8-Leads, Body 4.9x3.9mm, Pitch 1.27mm, IPC Medium Density)
footprint M08A_L (SOIC, 8-Leads, Body 4.9x3.9mm, Pitch 1.27mm, IPC High Density)
footprint M08A_M (SOIC, 8-Leads, Body 4.9x3.9mm, Pitch 1.27mm, IPC Low Density)
pins: 1 CB, 2 NC, 3 NC, 4 FB (in), 5 ON/~{OFF} (in), 6 GND (power), 7 VIN (power), 8 VSW (power)

## LM2675MX-5.0
designator U?
SIMPLE SWITCHER® Power Converter High Efficiency 1A Step-Down Voltage Regulator, 8-pin Narrow SOIC; PartNumber: LM2675MX-5.0; Manufacturer: National Semiconductor; PackageTopMarking: NSZXTT*2675*M5.0; PowerWise: N; High-Reliability: Y; DatasheetVersion: Jun-2005; PackageVersion: revM, May-2009; PackageReference: M08A; PackageDescription: SOIC Narrow, 4.9 x 3.9 x 1.45mm, 8 Lead, 1.27mm Pitch; RoHS: N; PinCount: 8; CompType: Switcher; Code_JEDEC: MS-012-AA; Code_IPC: SOIC127P600-8; ComponentLink1Description: Manufacturer URL; ComponentLink1URL: http://www.national.com/; ComponentLink2Description: LM2675 Datasheet; ComponentLink2URL: http://www.national.com/ds/LM/LM2675.pdf; ComponentLink3Description: LM2675 Web Page; ComponentLink3URL: http://www.national.com/pf/LM/LM2675.html; ComponentLink4Description: M08A Package Page; ComponentLink4URL: http://www.national.com/packaging/folders/m08a.html
footprint M08A_N (SOIC, 8-Leads, Body 4.9x3.9mm, Pitch 1.27mm, IPC Medium Density)
footprint M08A_L (SOIC, 8-Leads, Body 4.9x3.9mm, Pitch 1.27mm, IPC High Density)
footprint M08A_M (SOIC, 8-Leads, Body 4.9x3.9mm, Pitch 1.27mm, IPC Low Density)
pins: 1 CB, 2 NC, 3 NC, 4 FB (in), 5 ON/~{OFF} (in), 6 GND (power), 7 VIN (power), 8 VSW (power)

## LM2675MX-12
designator U?
SIMPLE SWITCHER® Power Converter High Efficiency 1A Step-Down Voltage Regulator, 8-pin Narrow SOIC; PartNumber: LM2675MX-12; Manufacturer: National Semiconductor; PackageTopMarking: NSZXTT*2675*M-12; PowerWise: N; High-Reliability: Y; DatasheetVersion: Jun-2005; PackageVersion: revM, May-2009; PackageReference: M08A; PackageDescription: SOIC Narrow, 4.9 x 3.9 x 1.45mm, 8 Lead, 1.27mm Pitch; RoHS: N; PinCount: 8; CompType: Switcher; Code_JEDEC: MS-012-AA; Code_IPC: SOIC127P600-8; ComponentLink1Description: Manufacturer URL; ComponentLink1URL: http://www.national.com/; ComponentLink2Description: LM2675 Datasheet; ComponentLink2URL: http://www.national.com/ds/LM/LM2675.pdf; ComponentLink3Description: LM2675 Web Page; ComponentLink3URL: http://www.national.com/pf/LM/LM2675.html; ComponentLink4Description: M08A Package Page; ComponentLink4URL: http://www.national.com/packaging/folders/m08a.html
footprint M08A_N (SOIC, 8-Leads, Body 4.9x3.9mm, Pitch 1.27mm, IPC Medium Density)
footprint M08A_L (SOIC, 8-Leads, Body 4.9x3.9mm, Pitch 1.27mm, IPC High Density)
footprint M08A_M (SOIC, 8-Leads, Body 4.9x3.9mm, Pitch 1.27mm, IPC Low Density)
pins: 1 CB, 2 NC, 3 NC, 4 FB (in), 5 ON/~{OFF} (in), 6 GND (power), 7 VIN (power), 8 VSW (power)

## LM2675MX-ADJ
designator U?
SIMPLE SWITCHER® Power Converter High Efficiency 1A Step-Down Voltage Regulator, 8-pin Narrow SOIC; PartNumber: LM2675MX-ADJ; Manufacturer: National Semiconductor; PackageTopMarking: NSZXTT*2675*MADJ; PowerWise: N; High-Reliability: Y; DatasheetVersion: Jun-2005; PackageVersion: revM, May-2009; PackageReference: M08A; PackageDescription: SOIC Narrow, 4.9 x 3.9 x 1.45mm, 8 Lead, 1.27mm Pitch; RoHS: N; PinCount: 8; CompType: Switcher; Code_JEDEC: MS-012-AA; Code_IPC: SOIC127P600-8; ComponentLink1Description: Manufacturer URL; ComponentLink1URL: http://www.national.com/; ComponentLink2Description: LM2675 Datasheet; ComponentLink2URL: http://www.national.com/ds/LM/LM2675.pdf; ComponentLink3Description: LM2675 Web Page; ComponentLink3URL: http://www.national.com/pf/LM/LM2675.html; ComponentLink4Description: M08A Package Page; ComponentLink4URL: http://www.national.com/packaging/folders/m08a.html
footprint M08A_N (SOIC, 8-Leads, Body 4.9x3.9mm, Pitch 1.27mm, IPC Medium Density)
footprint M08A_L (SOIC, 8-Leads, Body 4.9x3.9mm, Pitch 1.27mm, IPC High Density)
footprint M08A_M (SOIC, 8-Leads, Body 4.9x3.9mm, Pitch 1.27mm, IPC Low Density)
pins: 1 CB, 2 NC, 3 NC, 4 FB (in), 5 ON/~{OFF} (in), 6 GND (power), 7 VIN (power), 8 VSW (power)

## LM2675N-3.3
designator U?
SIMPLE SWITCHER® Power Converter High Efficiency 1A Step-Down Voltage Regulator, 8-pin MDIP; PartNumber: LM2675N-3.3; Manufacturer: National Semiconductor; PackageTopMarking: NSUZXYTTE#*LM2675*N-3.3; PowerWise: N; High-Reliability: Y; DatasheetVersion: Jun-2005; PackageVersion: revG, May-2006; PackageReference: N08E; PackageDescription: MDIP, .365 x .250 x .130in, 8 Lead, .100in Pitch; RoHS: N; PinCount: 8; CompType: Switcher; Code_JEDEC: MS-001-BA; ComponentLink1Description: Manufacturer URL; ComponentLink1URL: http://www.national.com/; ComponentLink2Description: LM2675 Datasheet; ComponentLink2URL: http://www.national.com/ds/LM/LM2675.pdf; ComponentLink3Description: LM2675 Web Page; ComponentLink3URL: http://www.national.com/pf/LM/LM2675.html; ComponentLink4Description: N08E Package Page; ComponentLink4URL: http://www.national.com/packaging/folders/n08e.html
footprint N08E (DIP, 8-Leads, Row Spacing 7.62mm, Pitch 2.54mm, Body 9.91x6.35mm)
pins: 1 CB, 2 NC, 3 NC, 4 FB (in), 5 ON/~{OFF} (in), 6 GND (power), 7 VIN (power), 8 VSW (power)

## LM2675N-3.3/NOPB
designator U?
SIMPLE SWITCHER® Power Converter High Efficiency 1A Step-Down Voltage Regulator, 8-pin MDIP, Pb-Free; PartNumber: LM2675N-3.3/NOPB; Manufacturer: National Semiconductor; PackageTopMarking: NSUZXYTTE#*LM2675*N-3.3; PowerWise: N; High-Reliability: Y; DatasheetVersion: Jun-2005; PackageVersion: revG, May-2006; PackageReference: N08E; PackageDescription: MDIP, .365 x .250 x .130in, 8 Lead, .100in Pitch; RoHS: Y; PinCount: 8; CompType: Switcher; Code_JEDEC: MS-001-BA; ComponentLink1Description: Manufacturer URL; ComponentLink1URL: http://www.national.com/; ComponentLink2Description: LM2675 Datasheet; ComponentLink2URL: http://www.national.com/ds/LM/LM2675.pdf; ComponentLink3Description: LM2675 Web Page; ComponentLink3URL: http://www.national.com/pf/LM/LM2675.html; ComponentLink4Description: N08E Package Page; ComponentLink4URL: http://www.national.com/packaging/folders/n08e.html
footprint N08E (DIP, 8-Leads, Row Spacing 7.62mm, Pitch 2.54mm, Body 9.91x6.35mm)
pins: 1 CB, 2 NC, 3 NC, 4 FB (in), 5 ON/~{OFF} (in), 6 GND (power), 7 VIN (power), 8 VSW (power)

## LM2675N-5.0
designator U?
SIMPLE SWITCHER® Power Converter High Efficiency 1A Step-Down Voltage Regulator, 8-pin MDIP; PartNumber: LM2675N-5.0; Manufacturer: National Semiconductor; PackageTopMarking: NSUZXYTTE#*LM2675*N-5.0; PowerWise: N; High-Reliability: Y; DatasheetVersion: Jun-2005; PackageVersion: revG, May-2006; PackageReference: N08E; PackageDescription: MDIP, .365 x .250 x .130in, 8 Lead, .100in Pitch; RoHS: N; PinCount: 8; CompType: Switcher; Code_JEDEC: MS-001-BA; ComponentLink1Description: Manufacturer URL; ComponentLink1URL: http://www.national.com/; ComponentLink2Description: LM2675 Datasheet; ComponentLink2URL: http://www.national.com/ds/LM/LM2675.pdf; ComponentLink3Description: LM2675 Web Page; ComponentLink3URL: http://www.national.com/pf/LM/LM2675.html; ComponentLink4Description: N08E Package Page; ComponentLink4URL: http://www.national.com/packaging/folders/n08e.html
footprint N08E (DIP, 8-Leads, Row Spacing 7.62mm, Pitch 2.54mm, Body 9.91x6.35mm)
pins: 1 CB, 2 NC, 3 NC, 4 FB (in), 5 ON/~{OFF} (in), 6 GND (power), 7 VIN (power), 8 VSW (power)

## LM2675N-5.0/NOPB
designator U?
SIMPLE SWITCHER® Power Converter High Efficiency 1A Step-Down Voltage Regulator, 8-pin MDIP, Pb-Free; PartNumber: LM2675N-5.0/NOPB; Manufacturer: National Semiconductor; PackageTopMarking: NSUZXYTTE#*LM2675*N-5.0; PowerWise: N; High-Reliability: Y; DatasheetVersion: Jun-2005; PackageVersion: revG, May-2006; PackageReference: N08E; PackageDescription: MDIP, .365 x .250 x .130in, 8 Lead, .100in Pitch; RoHS: Y; PinCount: 8; CompType: Switcher; Code_JEDEC: MS-001-BA; ComponentLink1Description: Manufacturer URL; ComponentLink1URL: http://www.national.com/; ComponentLink2Description: LM2675 Datasheet; ComponentLink2URL: http://www.national.com/ds/LM/LM2675.pdf; ComponentLink3Description: LM2675 Web Page; ComponentLink3URL: http://www.national.com/pf/LM/LM2675.html; ComponentLink4Description: N08E Package Page; ComponentLink4URL: http://www.national.com/packaging/folders/n08e.html
footprint N08E (DIP, 8-Leads, Row Spacing 7.62mm, Pitch 2.54mm, Body 9.91x6.35mm)
pins: 1 CB, 2 NC, 3 NC, 4 FB (in), 5 ON/~{OFF} (in), 6 GND (power), 7 VIN (power), 8 VSW (power)

## LM2675N-12
designator U?
SIMPLE SWITCHER® Power Converter High Efficiency 1A Step-Down Voltage Regulator, 8-pin MDIP; PartNumber: LM2675N-12; Manufacturer: National Semiconductor; PackageTopMarking: NSUZXYTTE#*LM2675*N-12; PowerWise: N; High-Reliability: Y; DatasheetVersion: Jun-2005; PackageVersion: revG, May-2006; PackageReference: N08E; PackageDescription: MDIP, .365 x .250 x .130in, 8 Lead, .100in Pitch; RoHS: N; PinCount: 8; CompType: Switcher; Code_JEDEC: MS-001-BA; ComponentLink1Description: Manufacturer URL; ComponentLink1URL: http://www.national.com/; ComponentLink2Description: LM2675 Datasheet; ComponentLink2URL: http://www.national.com/ds/LM/LM2675.pdf; ComponentLink3Description: LM2675 Web Page; ComponentLink3URL: http://www.national.com/pf/LM/LM2675.html; ComponentLink4Description: N08E Package Page; ComponentLink4URL: http://www.national.com/packaging/folders/n08e.html
footprint N08E (DIP, 8-Leads, Row Spacing 7.62mm, Pitch 2.54mm, Body 9.91x6.35mm)
pins: 1 CB, 2 NC, 3 NC, 4 FB (in), 5 ON/~{OFF} (in), 6 GND (power), 7 VIN (power), 8 VSW (power)